# Altium footprint library Vyrodov.PcbLib: 62 footprints (part 5 of 5)
Each footprint in its own frame and in the unit in brackets; x right, y up, seen from the top. Pads: shape width x height; smd on the part's side, far side on the other; paste and mask are expansions set on the pad; w line width, h text height; cw(c..) or ccw(c..) is an arc to the next point about the centre after c.
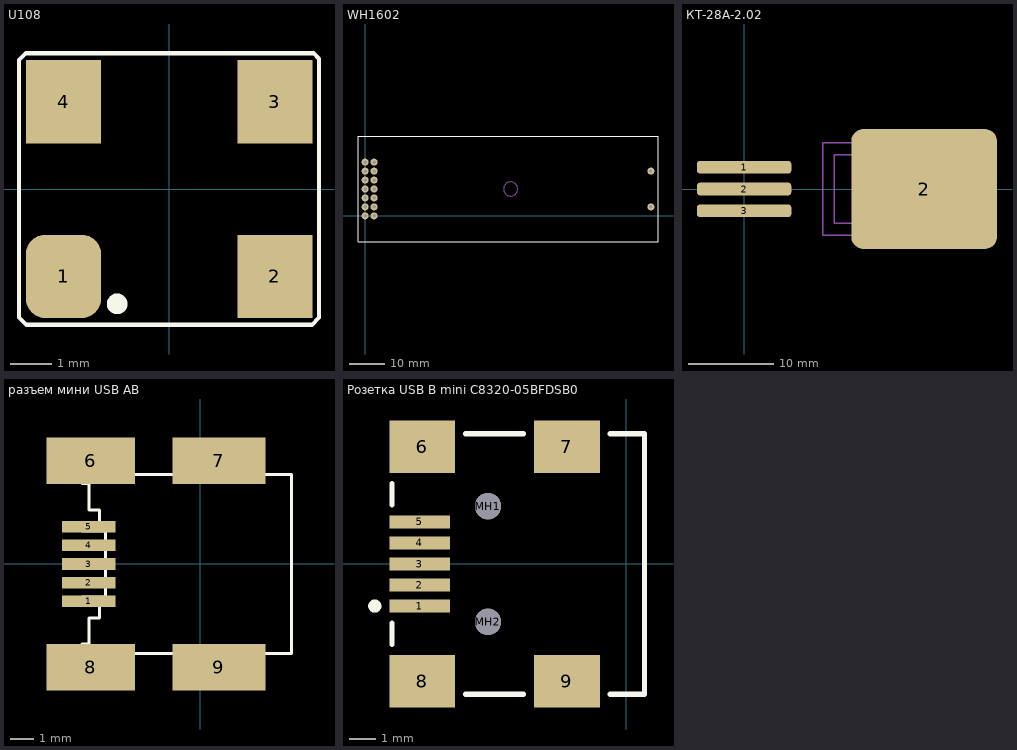
[diagram p4: the footprints below, top view; thin cyan lines are the x and y axes]

## U108 [mm] "GXO-U108"
height 1.4
pads (4):
  rrect50% 1.8x2 smd: 1(-2.54,-2.1)
  rect 1.8x2 smd: 2(2.54,-2.1) 3(2.54,2.1) 4(-2.54,2.1)
Top Overlay:
  lines w0.1: -3.61,-3.084 -3.61,3.102 -3.445,3.267 3.467,3.267 3.602,3.132 3.602,-3.091 3.43,-3.264 -3.43,-3.264 -3.61,-3.084
  lines w0.254: -1.131,-2.747 ccw(c-1.251,-2.76) -1.131,-2.76
3D body "gxou108.stp": height 1.43, standoff 0.02, extent -3.75,-2.489 3.75,2.511

## WH1602 [mm] "LCD Display"
height 12.65
pads (16):
  round 2 hole 1: 1(2.54,0) 2(0,0) 3(2.54,2.54) 4(0,2.54) 5(2.54,5.08) 6(0,5.08) 7(2.54,7.62) 8(0,7.62) 9(2.54,10.16) 10(0,10.16) 11(2.54,12.7) 12(0,12.7) 13(2.54,15.24) 14(0,15.24) A(81,12.7) K(81,2.54)
Top Overlay:
  lines w0.2: -2,-7.38 83,-7.38 83,22.62 -2,22.62 -2,-7.38
Mechanical 1:
  circle w0.254: c41.25,7.62 r2

## КТ-28А-2.02 [mm] "Стабилизатор 1303ЕН"
height 4.15
pads (4):
  rrect50% 11x1.5 smd: 1(0,2.54) 2(0,0) 3(0,-2.54)
  rrect20% 17x14 smd: 2(21,0)
Mechanical 13:
  lines w0.2: 13.975,-0.425 13.975,0.425 ; 9.175,-5.4 9.175,0 9.175,5.4 22.275,5.4 22.275,0 22.275,-5.4 9.175,-5.4 ; 10.5,-4 10.5,4 20.6,4 20.6,-4 10.5,-4 ; 13.975,-4.625 ccw(c14.75,-4.625) 14.75,-5.4 27.5,-5.4 ccw(c27.5,-4.625) 28.275,-4.625 28.275,4.625 ccw(c27.5,4.625) 27.5,5.4 14.75,5.4 ccw(c14.75,4.625) 13.975,4.625 13.975,-4.625
3D body: height 1.1, standoff 0, extent 13.975,0 28.275,5.4
3D body: height 1.1, standoff 0, extent 13.975,-5.4 28.275,0
3D body: height 3.05, standoff 1.1, extent 10.5,-4 20.6,4
3D body: height 2.5, standoff 1.1, extent 9.175,-5.4 22.275,5.4
3D body: height 1.1, standoff 0.55, extent -4.675,-0.425 13.975,0.425
3D body: height 1.1, standoff 0.55, extent -4.675,2.115 10.5,2.965
3D body: height 1.1, standoff 0.55, extent -4.675,-2.965 10.5,-2.115

## разъем мини USB AB [mm]
height 1.8
pads (9):
  rect 2.3x0.5 smd: 1(-4.802,-1.6) 2(-4.802,-0.8) 3(-4.802,0) 4(-4.802,0.8) 5(-4.802,1.6)
  rect 3.81x2 smd: 6(-4.702,4.45) 8(-4.702,-4.45)
  rect 4x2 smd: 7(0.798,4.45) 9(0.798,-4.45)
Top Overlay:
  circle w0.25: c-4.47,-1.6 r0.125
  lines w0.127: -3.58,-3.847 -3.58,-4.047 -3.58,-4.947 -3.88,-4.947 -3.88,-4.847 ccw(c-4.08,-4.847) -4.08,-4.647 -4.58,-4.647 ccw(c-4.58,-4.847) -4.78,-4.847 -4.78,-4.947 -5.08,-4.947 -5.08,-4.047 -5.08,-3.847 ; -3.58,3.853 -3.58,4.053 -3.58,4.953 -3.88,4.953 -3.88,4.853 cw(c-4.08,4.853) -4.08,4.653 -4.58,4.653 cw(c-4.58,4.853) -4.78,4.853 -4.78,4.953 -5.08,4.953 -5.08,4.053 -5.08,3.853 ; -1.08,-3.847 -1.08,-4.047 -1.08,-4.947 -0.78,-4.947 -0.78,-4.847 cw(c-0.58,-4.847) -0.58,-4.647 0.42,-4.647 cw(c0.42,-4.847) 0.62,-4.847 0.62,-4.947 0.92,-4.947 0.92,-4.047 0.92,-3.847 ; -1.08,3.853 -1.08,4.053 -1.08,4.953 -0.78,4.953 -0.78,4.853 ccw(c-0.58,4.853) -0.58,4.653 0.42,4.653 ccw(c0.42,4.853) 0.62,4.853 0.62,4.953 0.92,4.953 0.92,4.053 0.92,3.853 ; -5.08,-3.847 3.92,-3.847 3.92,-3.147 3.92,3.153 3.92,3.853 -5.08,3.853 ; -5.08,-3.847 -5.08,-3.447 -4.88,-3.447 -4.78,-3.447 -4.78,-2.322 -4.33,-2.322 -4.33,-1.772 -5.08,-1.772 -5.08,-1.422 -4.08,-1.422 -4.08,1.428 -5.08,1.428 -5.08,1.778 -4.33,1.778 -4.33,2.328 -4.78,2.328 -4.78,3.453 -4.88,3.453 -5.08,3.453 -5.08,3.853
3D body "Розетка USB AB mini.stp": height 3.95, standoff 0, extent -5.08,-4.95 3.92,4.95

## Розетка USB B mini C8320-05BFDSB0 [mm] "Connector; USB2.0, Type B, SM; 5 Position; Right Angle"
height 3.9
pads (11):
  rect 2.3x0.5 smd: 1(-7.85,-1.6) 2(-7.85,-0.8) 3(-7.85,0) 4(-7.85,0.8) 5(-7.85,1.6)
  rect 2.5x2 smd: 6(-7.75,4.45) 7(-2.25,4.45) 8(-7.75,-4.45) 9(-2.25,-4.45)
  round 1 hole 1 unplated: MH1(-5.25,2.2) MH2(-5.25,-2.2)
Top Overlay:
  circle w0.25: c-9.55,-1.6 r0.125
  lines w0.2: -8.9,-3.05 -8.9,-2.25 ; -8.9,2.25 -8.9,3.05 ; -6.1,-4.95 -3.9,-4.95 ; -6.1,4.95 -3.9,4.95 ; -0.6,-4.95 0.7,-4.95 0.7,4.95 -0.6,4.95
3D body "Розетка USB B mini C8320-05BFDSB0.stp": height 0, standoff 0, extent 7.493,-0.737 7.493,-0.737
3D body "Розетка USB B mini C8320-05BFDSB0.stp": height 0, standoff 0, extent 6.731,0.838 6.731,0.838
3D body "Розетка USB B mini C8320-05BFDSB0.step": height 3.95, standoff -1, extent -8.537,-5.366 0.663,5.334